# Altium footprint library CUBaja.PcbLib: 79 footprints (part 1 of 5)
Each footprint in its own frame and in the unit in brackets; x right, y up, seen from the top. Pads: shape width x height; smd on the part's side, far side on the other; paste and mask are expansions set on the pad; w line width, h text height; cw(c..) or ccw(c..) is an arc to the next point about the centre after c.
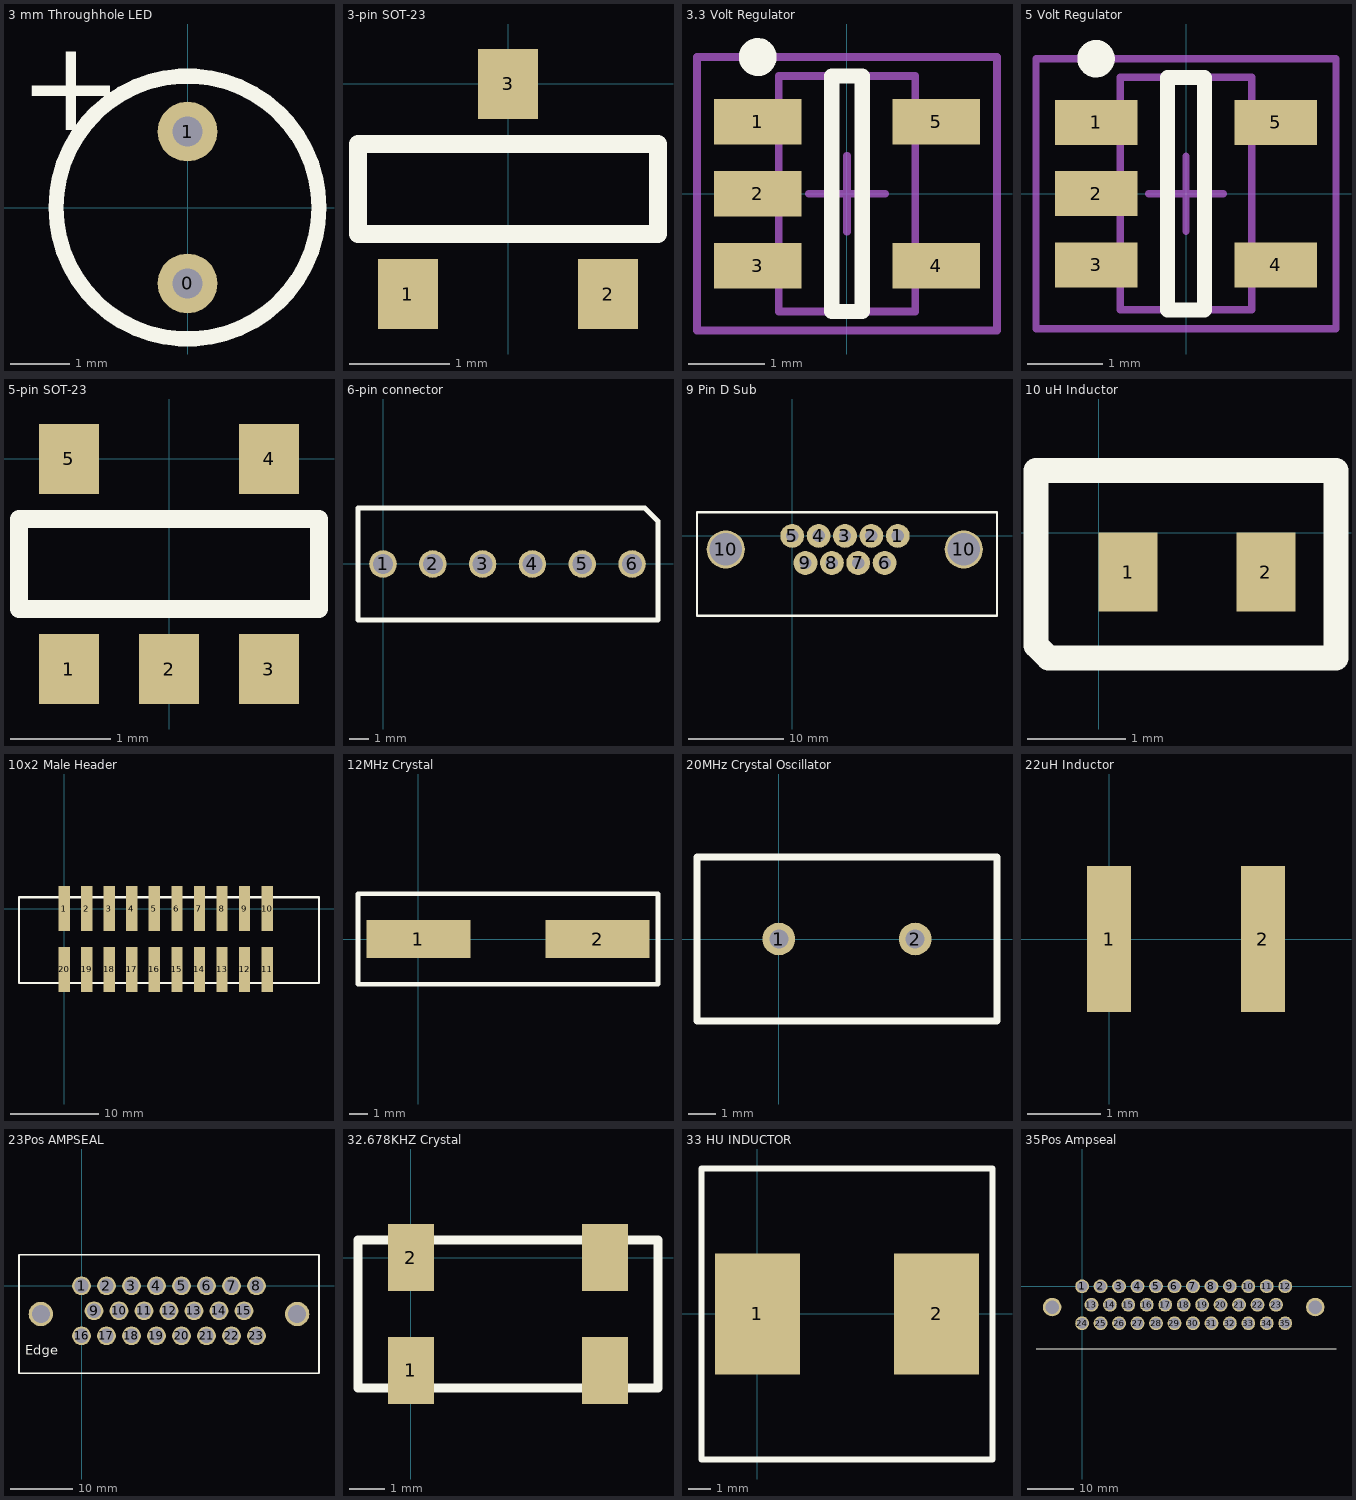
[diagram p0: the footprints below, top view; thin cyan lines are the x and y axes]

## 3 mm Throughhole LED [mm]
pads (2):
  round 1 hole 0.5: 0(0,-1.27) 1(0,1.27)
Top Overlay:
  circle w0.254: c0,0 r2.2
  text "+" at -2.819,1.295 h1.52

## 3-pin SOT-23 [mm] "surface mount linear regulator footprint"
height 0.025
pads (3):
  rect 0.6x0.7 smd: 1(-1,-2.1) 2(1,-2.1) 3(0,0)
Top Overlay:
  lines w0.178: -1.5,-1.5 1.5,-1.5 1.5,-0.6 -1.5,-0.6 -1.5,-1.5

## 3.3 Volt Regulator [mm] "SOT23, 5-Leads, Body 3.1x3.2mm (max), Pitch 0.95mm, IPC Medium Density"
height 1.45
pads (5):
  rect 1.15x0.6 smd: 1(-1.175,0.95) 2(-1.175,0) 3(-1.175,-0.95) 4(1.175,-0.95) 5(1.175,0.95)
Top Overlay:
  circle w0.25: c-1.175,1.8 r0.125
  lines w0.2: -0.2,-1.55 0.2,-1.55 0.2,1.55 -0.2,1.55 -0.2,-1.55
Mechanical 13:
  lines w0.1: -0.9,-1.55 -0.9,1.55 0.9,1.55 0.9,-1.55 -0.9,-1.55
Mechanical 15:
  lines w0.1: -0.5,0 0.5,0 ; 0,-0.5 0,0.5 ; -1.975,-1.8 -1.975,1.8 1.975,1.8 1.975,-1.8 -1.975,-1.8
3D body: height 1.45, standoff 0, extent -0.9,-1.55 0.9,1.55

## 5 Volt Regulator [mm] "SOT23, 5-Leads, Body 3.1x3.0mm (max), Pitch 0.95mm, IPC Medium Density"
height 1.45
pads (5):
  rect 1.1x0.6 smd: 1(-1.2,0.95) 2(-1.2,0) 3(-1.2,-0.95) 4(1.2,-0.95) 5(1.2,0.95)
Top Overlay:
  circle w0.25: c-1.2,1.8 r0.125
  lines w0.2: -0.25,-1.55 0.25,-1.55 0.25,1.55 -0.25,1.55 -0.25,-1.55
Mechanical 13:
  lines w0.1: -0.875,-1.55 -0.875,1.55 0.875,1.55 0.875,-1.55 -0.875,-1.55
Mechanical 15:
  lines w0.1: -0.5,0 0.5,0 ; 0,-0.5 0,0.5 ; -2,-1.8 -2,1.8 2,1.8 2,-1.8 -2,-1.8
3D body: height 1.45, standoff 0, extent -0.875,-1.55 0.875,1.55

## 5-pin SOT-23 [mm] "surface mount linear regulator footprint"
height 0.025
pads (5):
  rect 0.6x0.7 smd: 1(-1,-2.1) 2(0,-2.1) 3(1,-2.1) 4(1,0) 5(-1,0)
Top Overlay:
  lines w0.178: -1.5,-1.5 1.5,-1.5 1.5,-0.6 -1.5,-0.6 -1.5,-1.5

## 6-pin connector [mil] "Tyco through-hole 6 pin connector"
height 354.33
pads (6):
  round 55.24 hole 40: 1(0,0) 2(100,0) 3(200,0) 4(300,0) 5(400,0) 6(500,0)
Top Overlay:
  lines w10: 524,112.2 525.96,112.2 ; 549.17,89 525.96,112.2 ; 525.96,112.2 552.17,86 552.17,-112.2 ; 525.96,112.2 -50.2,112.2 -50.2,-112.2 552.17,-112.2 ; 552.17,-112.2 552.17,-112.2

## 9 Pin D Sub [mm]
height 12.5
pads (11):
  round 2.5 hole 1.3: 1(11.08,0) 2(8.31,0) 3(5.54,0) 4(2.77,0) 5(0,0) 6(9.7,-2.84) 7(6.93,-2.84) 8(4.16,-2.84) 9(1.39,-2.84)
  round 4 hole 3.4: 10(-6.98,-1.42) 10(18.01,-1.42)
Top Overlay:
  lines w0.254: -10,-8.4 21.5,-8.4 21.5,2.5 -10,2.5 -10,-8.4

## 10 uH Inductor [mm]
pads (2):
  rect 0.6x0.8 smd mask+0.2: 1(0.3,-0.4) 2(1.7,-0.4)
Top Overlay:
  lines w0.254: -0.635,-1.143 -0.635,0.635 2.413,0.635 2.413,-1.27 -0.508,-1.27 -0.635,-1.143

## 10x2 Male Header [mil]
height 0.4
pads (20):
  rect 50x200 smd: 1(0,0) 2(100,0) 3(200,0) 4(300,0) 5(400,0) 6(500,0) 7(600,0) 8(700,0) 9(800,0) 10(900,0) 11(900,-270) 12(800,-270) 13(700,-270) 14(600,-270) 15(500,-270) 16(400,-270) 17(300,-270) 18(200,-270) 19(100,-270) 20(0,-270)
Top Overlay:
  lines w10: -200,-330 1130,-330 1130,50 -200,50 -200,-330

## 12MHz Crystal [mm]
height 4
pads (2):
  rect 5.5x2 smd: 1(0,0) 2(9.5,0)
Top Overlay:
  lines w0.254: -3.2,-2.4 12.7,-2.4 12.7,2.4 -3.2,2.4 -3.2,-2.4
  text ".Designator" at -3,3.2 h1.5

## 20MHz Crystal Oscillator [mm]
height 14
pads (2):
  round 1.2 hole 0.7: 1(0,0) 2(5,0)
Top Overlay:
  lines w0.254: 5,-3 8,-3 8,3 -3,3 -3,-3 5.4,-3

## 22uH Inductor [mm]
pads (2):
  rect 0.6x2 smd: 1(0,0) 2(2.1,0)

## 23Pos AMPSEAL [mm]
pads (25):
  round 3 hole 2.286: 1(0,0) 2(4,0) 3(8,0) 4(12,0) 5(16,0) 6(20,0) 7(24,0) 8(28,0) 9(2,-4) 10(6,-4) 11(10,-4) 12(14,-4) 13(18,-4) 14(22,-4) 15(26,-4) 16(0,-8) 17(4,-8) 18(8,-8) 19(12,-8) 20(16,-8) 21(20,-8) 22(24,-8) 23(28,-8)
  round 3.9 hole 2.85: ""(-6.5,-4.5) ""(34.5,-4.5)
Top Overlay:
  lines w0.254: -10,-14 38,-14 38,5 -10,5 -10,-14
  text "Edge" at -9,-11 h1.52

## 32.678KHZ Crystal [mm]
height 2.5
pads (4):
  rect 1.3x1.9 smd: 1(0,-3.2) 2(0,0) ""(5.5,-3.2) ""(5.5,0)
Top Overlay:
  lines w0.254: -1.5,-3.7 7,-3.7 7,0.5 -1.5,0.5 -1.5,-3.7
  text ".Designator" at -1,1.8 h1.52

## 33 HU INDUCTOR [mm] "INDUCTOR POWER 33UH 4.2A SMD Wurth"
height 10
pads (2):
  rect 3.81x5.4 smd: 1(0,0) 2(8,0)
Top Overlay:
  lines w0.254: -2.5,-6.504 10.5,-6.504 10.5,6.5 -2.5,6.5 -2.5,-6.504

## 35Pos Ampseal [mm]
pads (37):
  round 3 hole 2.3: 1(0,0) 2(4,0) 3(8,0) 4(12,0) 5(16,0) 6(20,0) 7(24,0) 8(28,0) 9(32,0) 10(36,0) 11(40,0) 12(44,0) 13(2,-4) 14(6,-4) 15(10,-4) 16(14,-4) 17(18,-4) 18(22,-4) 19(26,-4) 20(30,-4) 21(34,-4) 22(38,-4) 23(42,-4) 24(0,-8) 25(4,-8) 26(8,-8) 27(12,-8) 28(16,-8) 29(20,-8) 30(24,-8) 31(28,-8) 32(32,-8) 33(36,-8) 34(40,-8) 35(44,-8)
  round 4 hole 2.9: ""(-6.5,-4.5) ""(50.5,-4.5)
Top Overlay:
  lines w0.254: -10,-13.5 50.5,-13.5 55,-13.5